# Altium footprint library DAP_Interface.PcbLib: 4 footprints
Each footprint in its own frame and in the unit in brackets; x right, y up, seen from the top. Pads: shape width x height; smd on the part's side, far side on the other; paste and mask are expansions set on the pad; w line width, h text height; cw(c..) or ccw(c..) is an arc to the next point about the centre after c.
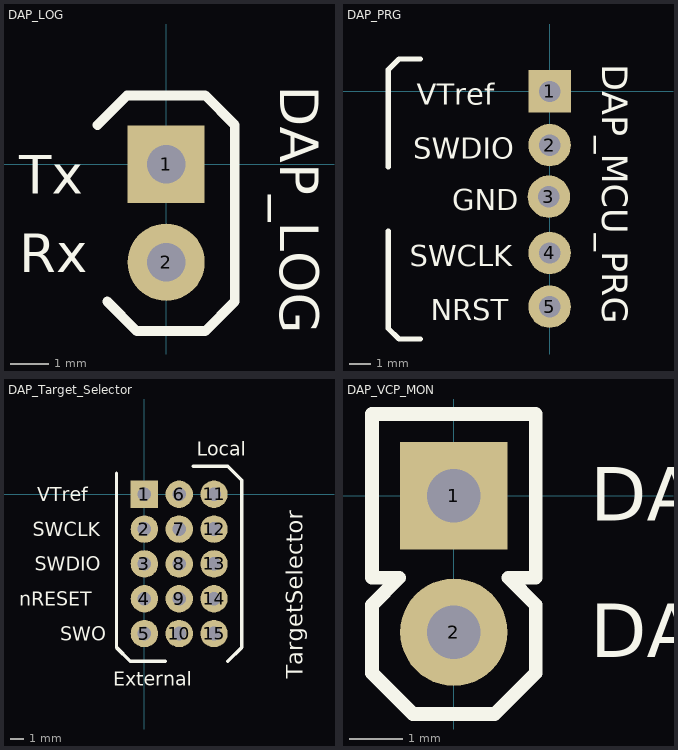
[diagram p0: the footprints below, top view; thin cyan lines are the x and y axes]

## DAP_LOG [mm]
pads (2):
  rect 2x2 hole 1: 1(0,0)
  round 2 hole 1: 2(0,-2.54)
Top Overlay:
  lines w0.254: -1.778,1.016 -1.016,1.778 1.016,1.778 1.778,1.016 1.778,-3.556 1.016,-4.318 -0.762,-4.318 -1.524,-3.556
  text "DAP_LOG" at 2.961,2.032 h1
  text "Tx" at -3.81,-0.762 h1
  text "Rx" at -3.81,-2.794 h1

## DAP_PRG [mm]
pads (5):
  rect 2x2 hole 1: 1(0,0)
  round 2 hole 1: 2(0,-2.54) 3(-0.041,-4.97) 4(0,-7.62) 5(0,-10.16)
Top Overlay:
  lines w0.254: -7.62,-6.604 -7.62,-11.176 -7.112,-11.684 -6.096,-11.684 ; -7.62,-3.556 -7.62,1.016 -7.112,1.524 -6.096,1.524
  text "VTref" at -6.271,-0.635 h1
  text "SWDIO" at -6.437,-3.175 h1
  text "GND" at -4.605,-5.605 h1
  text "SWCLK" at -6.604,-8.255 h1
  text "NRST" at -5.604,-10.795 h1
  text "DAP_MCU_PRG" at 2.486,1.27 h1.2

## DAP_Target_Selector [mm]
pads (15):
  rect 2x2 hole 1: 1(0,0)
  round 2 hole 1: 2(0,-2.54) 3(0,-5.08) 4(0,-7.62) 5(0,-10.16) 6(2.54,0) 7(2.54,-2.54) 8(2.54,-5.08) 9(2.54,-7.62) 10(2.54,-10.16) 11(5.08,0) 12(5.08,-2.54) 13(5.08,-5.08) 14(5.08,-7.62) 15(5.08,-10.16)
Top Overlay:
  lines w0.254: -2.032,1.524 -2.032,-10.668 -2.032,-11.176 -1.016,-12.192 1.524,-12.192 ; 3.556,2.032 6.096,2.032 7.112,1.016 7.112,-1.524 7.112,-11.176 6.096,-12.192
  text "TargetSelector" at 11.538,-13.462 h1.2
  text "VTref" at -7.811,-0.508 h1
  text "SWCLK" at -8.144,-3.048 h1
  text "SWDIO" at -7.978,-5.588 h1
  text "nRESET" at -9.144,-8.128 h1
  text "SWO" at -6.145,-10.668 h1
  text "Local" at 3.81,2.794 h1
  text "External" at -2.286,-13.97 h1

## DAP_VCP_MON [mm]
pads (2):
  rect 2x2 hole 1: 1(0,0)
  round 2 hole 1: 2(0,-2.54)
Top Overlay:
  lines w0.254: -1.524,-3.302 -0.762,-4.064 0.762,-4.064 1.27,-3.556 1.524,-3.302 1.524,-2.667 1.524,-2.032 1.016,-1.524 1.524,-1.524 1.524,1.524 -1.524,1.524 -1.524,-1.524 -1.016,-1.524 -1.524,-2.032 -1.524,-3.302
  text "DAP_VCP_TX" at 2.54,-0.468 h1
  text "DAP_VCP_RX" at 2.54,-3.008 h1